# Altium schematic symbol library BC848BWT1G.Schlib: 1 symbol
Pins are listed as number, name and electrical type; pins without a type are passive.

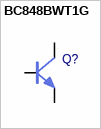
[diagram p0: symbol BC848BWT1G]

## BC848BWT1G
designator Q?  (value not drawn)
pins: 1 B, 2 E, 3 C